# Altium schematic symbol library memory-samsung.SCHLIB: 2 symbols
Pins are listed as number, name and electrical type; pins without a type are passive.

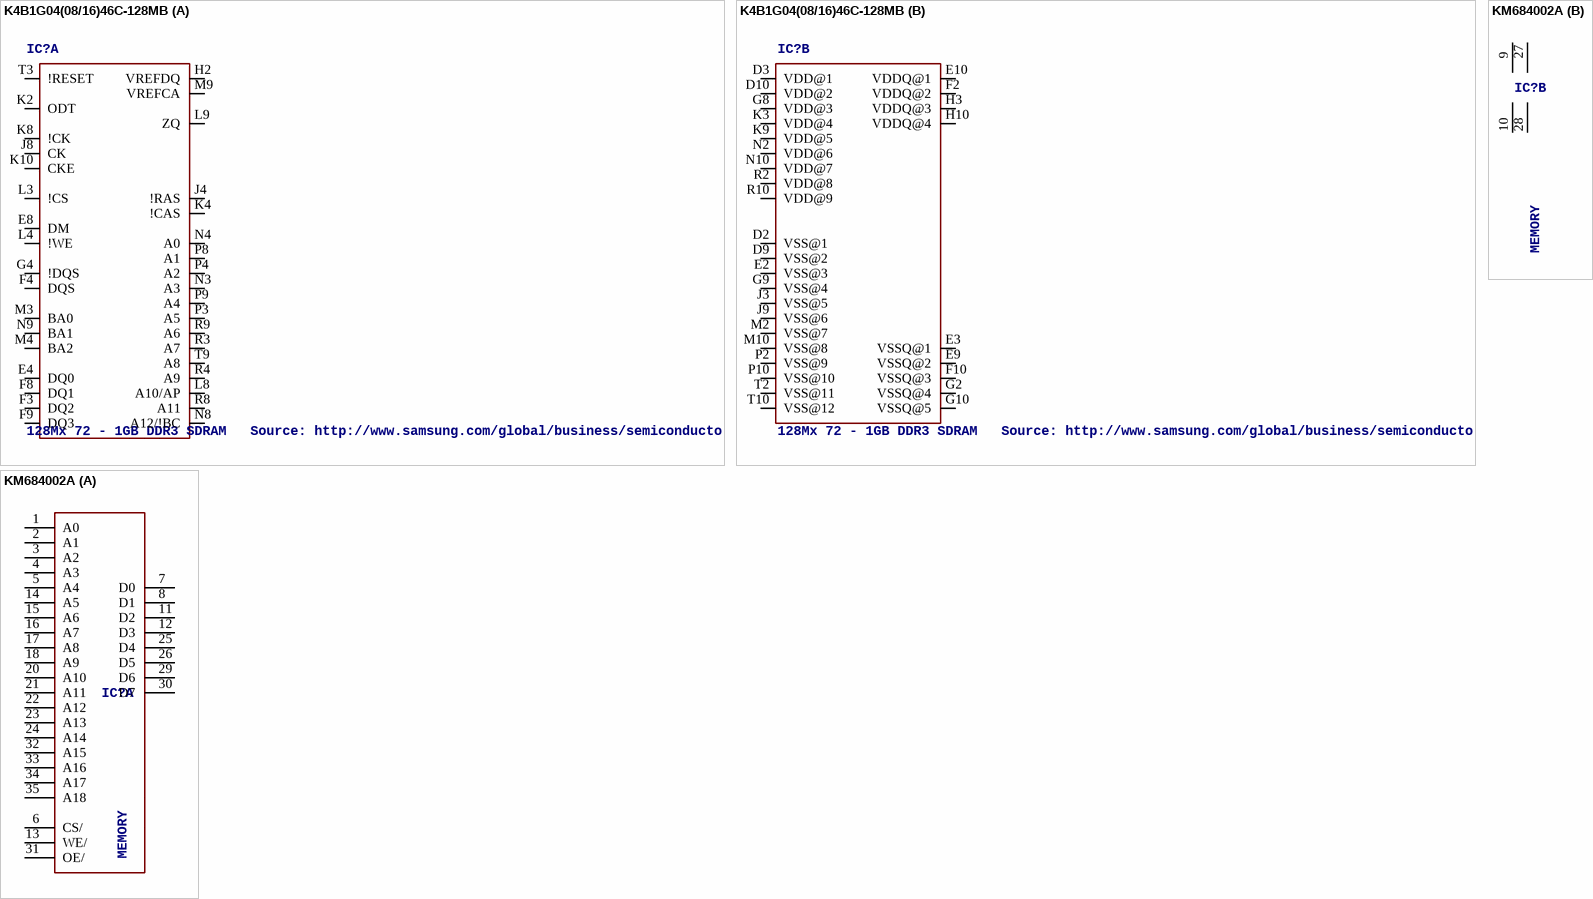
[diagram p0: symbols K4B1G04(08/16)46C-128MB to KM684002A]

## K4B1G04(08/16)46C-128MB
designator IC?, comment 128Mx 72 - 1GB DDR3 SDRAM   Source: http://www.samsung.com/global/business/semiconductor/products/dram/downloads/ddr3_product_guide_july_07.pdf
OC_FARNELL: unknown; OC_NEWARK: unknown
footprint FBGA-94-C
part A pins: E4 DQ0, E8 DM, F3 DQ2, F4 DQS, F8 DQ1, F9 DQ3, G4 !DQS, H2 VREFDQ, J4 !RAS, J8 CK, K2 ODT, K4 !CAS, K8 !CK, K10 CKE, L3 !CS, L4 !WE, L8 A10/AP, L9 ZQ, M3 BA0, M4 BA2, M8 NC@2, M9 VREFCA, N3 A3, N4 A0, N8 A12/!BC, N9 BA1, P3 A5, P4 A2, P8 A1, P9 A4, R3 A7, R4 A9, R8 A11, R9 A6, T3 !RESET, T4 NC@0, T8 NC@1, T9 A8
part B pins: D2 VSS@1, D3 VDD@1, D9 VSS@2, D10 VDD@2, E2 VSS@3, E3 VSSQ@1, E9 VSSQ@2, E10 VDDQ@1, F2 VDDQ@2, F10 VSSQ@3, G2 VSSQ@4, G8 VDD@3, G9 VSS@4, G10 VSSQ@5, H3 VDDQ@3, H10 VDDQ@4, J3 VSS@5, J9 VSS@6, K3 VDD@4, K9 VDD@5, M2 VSS@7, M10 VSS@8, N2 VDD@6, N10 VDD@7, P2 VSS@9, P10 VSS@10, R2 VDD@8, R10 VDD@9, T2 VSS@11, T10 VSS@12

## KM684002A
designator IC?, comment MEMORY
OC_FARNELL: unknown; OC_NEWARK: unknown
footprint SOJ36-4
part A pins: 1 A0, 2 A1, 3 A2, 4 A3, 5 A4, 6 CS/, 7 D0 (hiz), 8 D1 (hiz), 11 D2 (hiz), 12 D3 (hiz), 13 WE/, 14 A5, 15 A6, 16 A7, 17 A8, 18 A9, 19 NC, 20 A10, 21 A11, 22 A12, 23 A13, 24 A14, 25 D4 (hiz), 26 D5 (hiz), 29 D6 (hiz), 30 D7 (hiz), 31 OE/, 32 A15, 33 A16, 34 A17, 35 A18, 36 NC1
part B pins: 9 VCC (power), 10 GND (power), 27 VCC@1 (power), 28 GND@1 (power)